# EAGLE library part DLP31DN441ML4L (library FaBo-Coil)
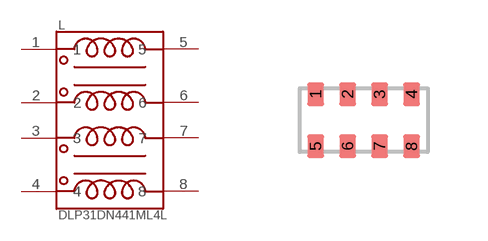
[diagram p0: symbol with the pads of DLP31DN; footprint DLP31DN]

Designator prefix L

## DLP31DN441ML4L  [DLP31DN]
1  1
2  2
3  3
4  4
5  5
6  6
7  7
8  8

## Footprint DLP31DN (pad centres in mm)
smd 0.42 x 0.6: 1 -1.2,0.65; 2 -0.4,0.65; 3 0.4,0.65; 4 1.2,0.65; 5 -1.2,-0.65; 6 -0.4,-0.65; 7 0.4,-0.65; 8 1.2,-0.65